# EAGLE library part LM2876 (library Audio-Power-amlifier V.2.0)
LM2876 Overture™ Audio Power Amplifier Series High-Performance 40W Audio Power Amplifier w/Mute
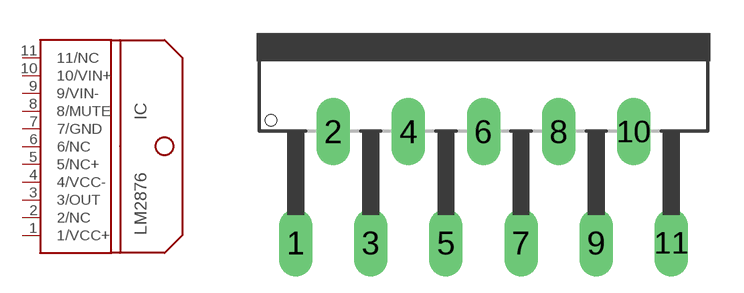
[diagram p245: symbol with the pads of TF11B; footprint TF11B]

Designator prefix IC

## LM2876  [TF11B]
1  1/VCC+  pwr
2  2/NC  nc
3  3/OUT  out
4  4/VCC-  pwr
5  5/NC+  nc
6  6/NC  nc
7  7/GND  pwr
8  8/MUTE  in
9  9/VIN-  in
10  10/VIN+  in
11  11/NC  nc

## Footprint TF11B (pad centres in mm)
TO-220 11 lead, National Semiconductor
drill 1.016 long: 1 -8.509,-9.525; 2 -6.807,-4.47; 3 -5.105,-9.525; 4 -3.404,-4.47; 5 -1.702,-9.525; 6 0,-4.47; 7 1.702,-9.525; 8 3.404,-4.47; 9 5.105,-9.525; 10 6.807,-4.47; 11 8.509,-9.525